# Altium footprint library CONN_3.5MM_STEREO_DBL_VERT_TH.PcbLib: 1 footprints
Each footprint in its own frame and in the unit in brackets; x right, y up, seen from the top. Pads: shape width x height; smd on the part's side, far side on the other; paste and mask are expansions set on the pad; w line width, h text height; cw(c..) or ccw(c..) is an arc to the next point about the centre after c.
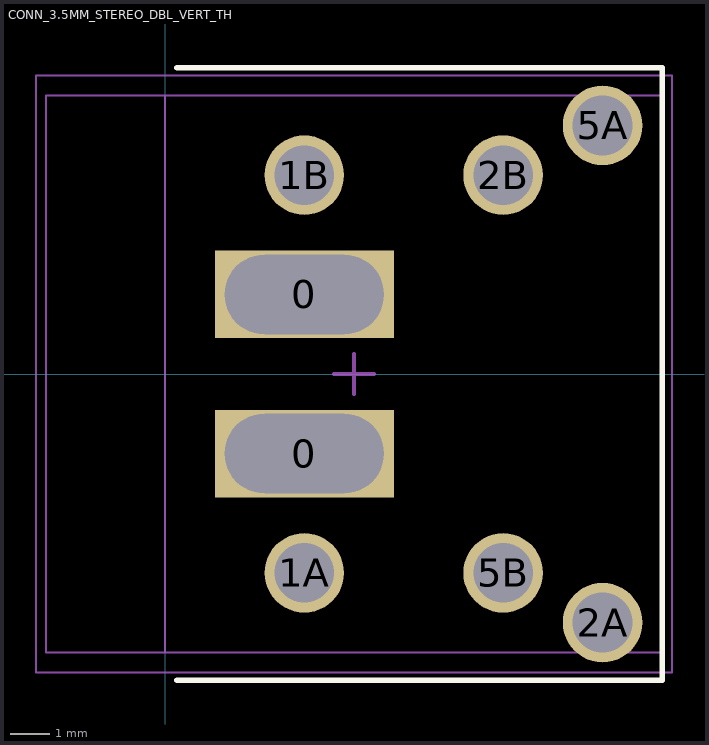
[diagram p0: the footprint, top view; thin cyan lines are the x and y axes]

## CONN_3.5MM_STEREO_DBL_VERT_TH [mm]
pads (8):
  rect 4.5x2.2 hole 2 slot 4 at 0 deg unplated: 0(3.5,-2) 0(3.5,2)
  round 2 hole 1.5: 1A(3.5,-5) 1B(3.5,5) 2A(11,-6.25) 2B(8.5,5) 5A(11,6.25) 5B(8.5,-5)
Top Overlay:
  lines w0.15: 0.3,-7.7 12.5,-7.7 12.5,7.7 0.3,7.7
Top Assembly:
  lines w0.05: -3,-7 0,-7 0,7 -3,7 ; -3,-7 -3,7 ; -3,-7 12.5,-7 12.5,7 -3,7 ; -3,-7 -3,7
  text "Off PCB Edge" at -1.657,1.5 h0.76
  text ".Designator" at 1.4,-0.424 h2
Top Courtyard:
  lines w0.05: -3.25,-7.5 12.75,-7.5 12.75,7.5 -3.25,7.5 -3.25,-7.5
  lines w0.1: 4.25,0 5.25,0 ; 4.75,-0.5 4.75,0.5
3D body "STX-4235-3_3_N_rA4_1784349864.214.step": height 26.01, standoff -3.99, extent -3,-7 12.5,7